# EAGLE library part GATE_DRIVE (library HyTechDevices2)
Gate drive for MOSFET transistors
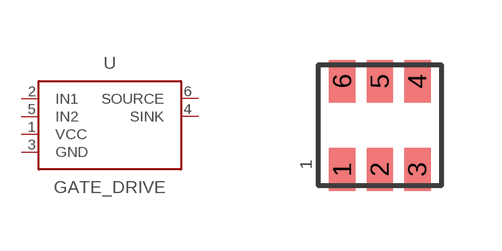
[diagram p51: symbol with the pads of SOT23-6; footprint SOT23-6]

Designator prefix -

## GATE_DRIVEZXGD3003E6TA  [SOT23-6]
1  VCC
2  IN1
3  GND
4  SINK
5  IN2
6  SOURCE

## Footprint SOT23-6 (pad centres in mm)
smd 0.66 x 1.067: 1 0,0; 2 0.94,0; 3 1.88,0; 4 1.88,2.21; 5 0.94,2.21; 6 0,2.21